# Altium footprint library SG210STF160000ML0.PcbLib: 1 footprints
Each footprint in its own frame and in the unit in brackets; x right, y up, seen from the top. Pads: shape width x height; smd on the part's side, far side on the other; paste and mask are expansions set on the pad; w line width, h text height; cw(c..) or ccw(c..) is an arc to the next point about the centre after c.
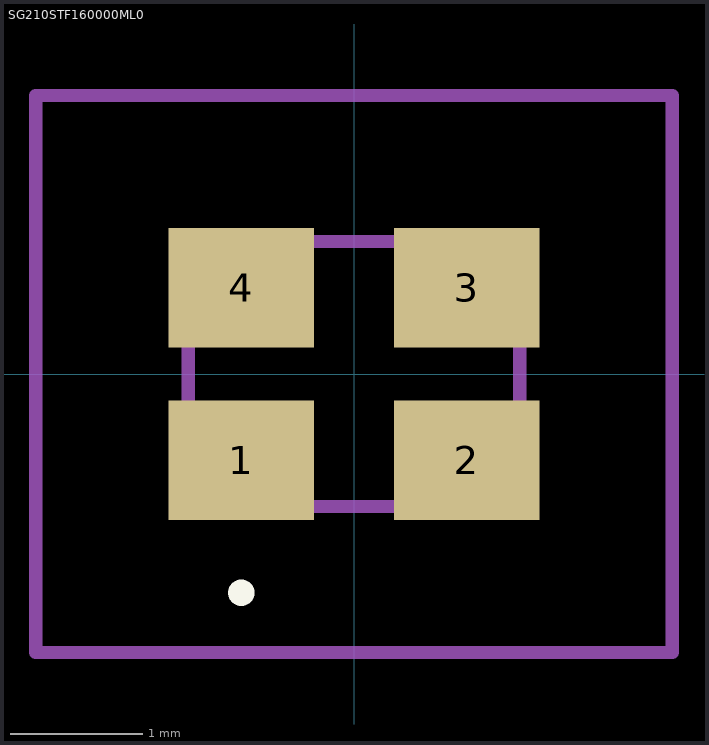
[diagram p0: the footprint, top view; thin cyan lines are the x and y axes]

## SG210STF160000ML0 [mm]
pads (4):
  rect 1.1x0.9 smd: 1(-0.85,-0.65) 2(0.85,-0.65) 3(0.85,0.65) 4(-0.85,0.65)
Top Overlay:
  lines w0.1: -0.85,-1.7 cw(c-0.85,-1.65) -0.85,-1.6 ; -0.85,-1.7 -0.85,-1.7 ; -0.85,-1.7 ccw(c-0.85,-1.65) -0.85,-1.6 ; -0.85,-1.6 -0.85,-1.6
Mechanical 15:
  lines w0.1: -1.25,-1 1.25,-1 1.25,1 -1.25,1 -1.25,-1
Mechanical 20:
  lines w0.1: -2.4,-2.1 2.4,-2.1 2.4,2.1 -2.4,2.1 -2.4,-2.1